# Altium footprint library CRL5W-33k.PcbLib: 1 footprints
Each footprint in its own frame and in the unit in brackets; x right, y up, seen from the top. Pads: shape width x height; smd on the part's side, far side on the other; paste and mask are expansions set on the pad; w line width, h text height; cw(c..) or ccw(c..) is an arc to the next point about the centre after c.
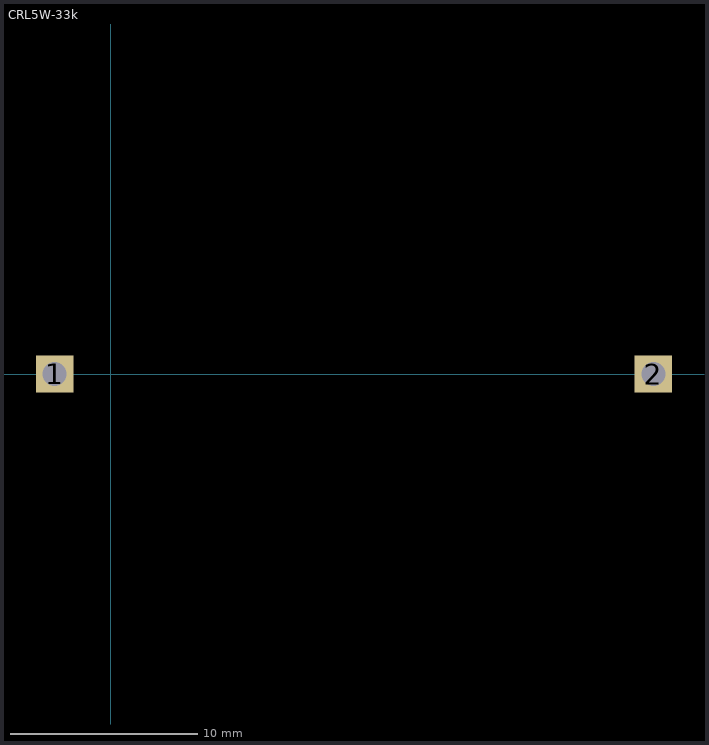
[diagram p0: the footprint, top view; thin cyan lines are the x and y axes]

## CRL5W-33k [mm]
pads (2):
  rect 2x2 hole 1.3: 1(-3,0) 2(29,0)
3D body: height 9.5, standoff 0.3, extent 18,1 18,1
3D body: height 9.5, standoff 0.3, extent 1.5,-5 23.5,5